# Altium footprint library Pcblibv2.PcbLib: 94 footprints (part 2 of 6)
Each footprint in its own frame and in the unit in brackets; x right, y up, seen from the top. Pads: shape width x height; smd on the part's side, far side on the other; paste and mask are expansions set on the pad; w line width, h text height; cw(c..) or ccw(c..) is an arc to the next point about the centre after c.
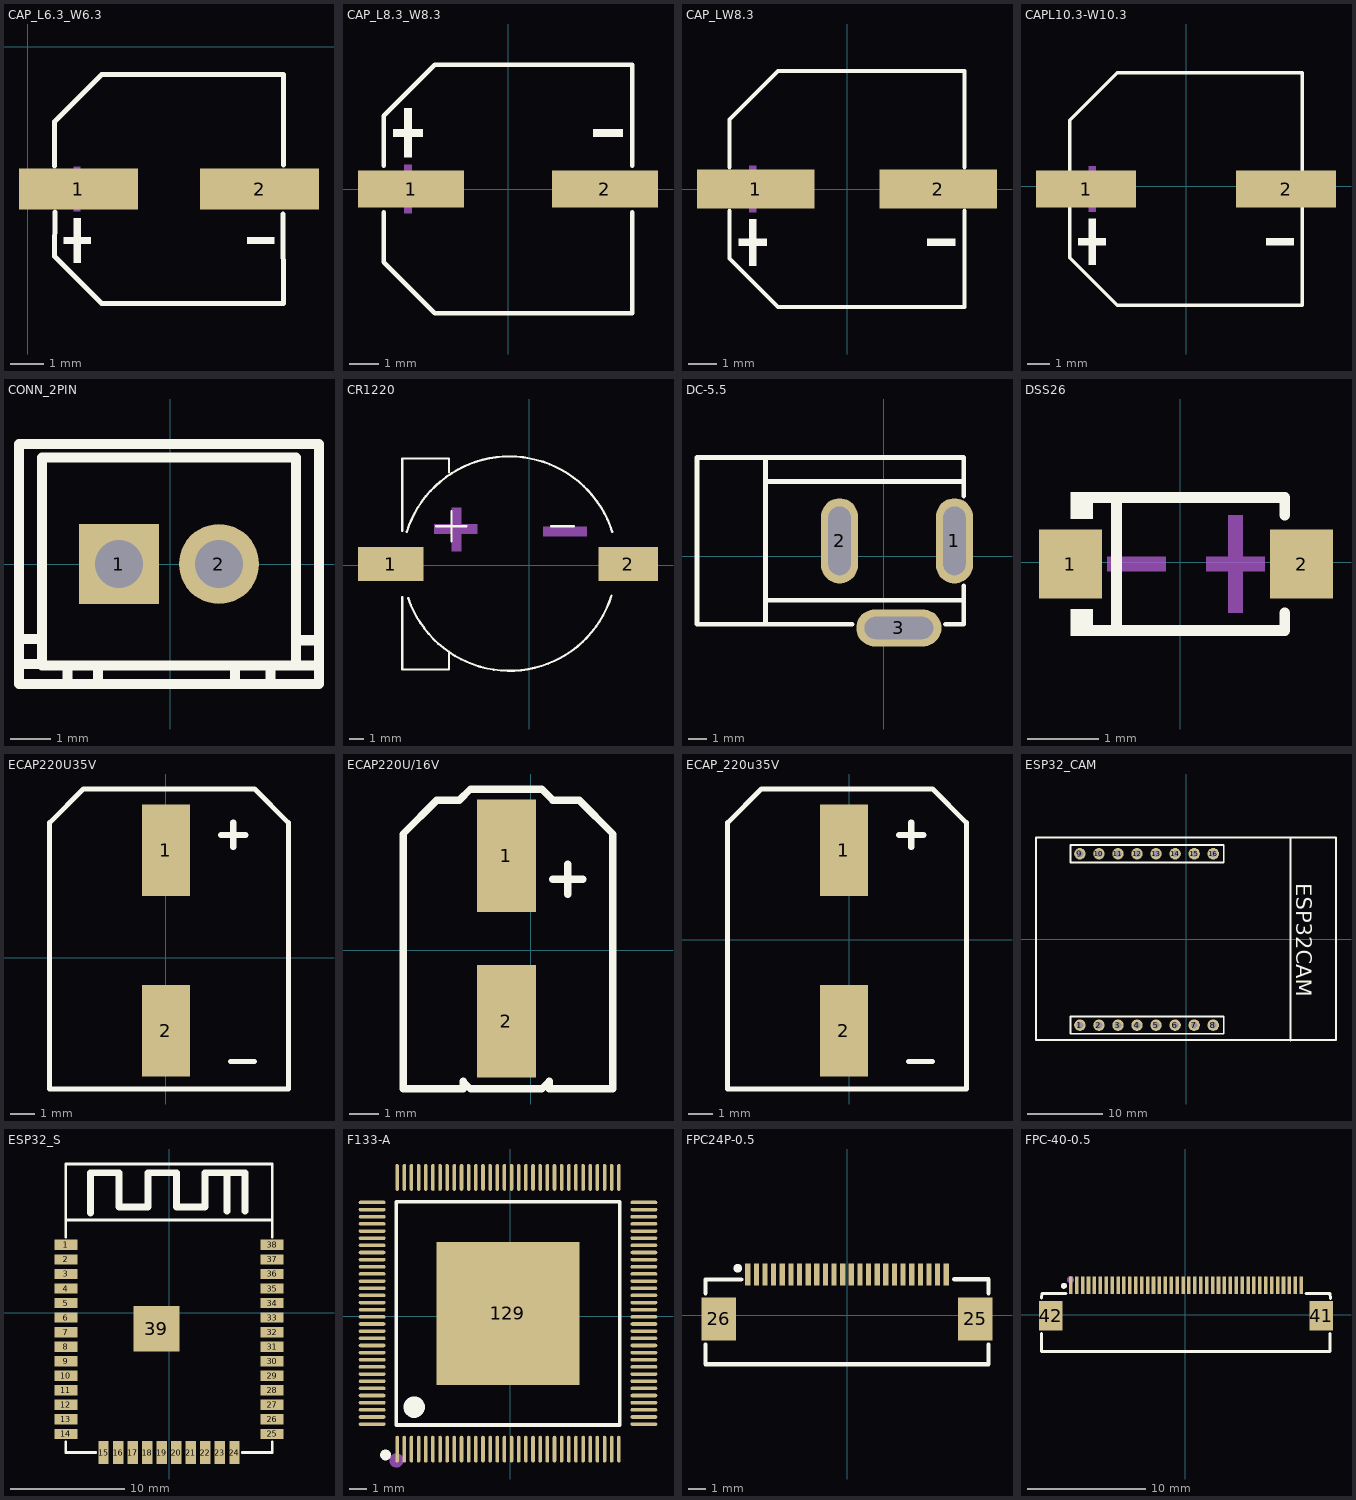
[diagram p1: the footprints below, top view; thin cyan lines are the x and y axes]

## CAP_L6.3_W6.3 [mm]
pads (2):
  rect 3.5x1.2 smd: 1(1.491,-4.186) 2(6.831,-4.186)
Top Overlay:
  region: 1.356,-5.044 1.356,-6.364 1.554,-6.364 1.554,-5.044
  region: 1.059,-5.605 1.059,-5.803 1.851,-5.803 1.851,-5.605
  region: 7.263,-5.605 7.263,-5.803 6.471,-5.803 6.471,-5.605
  lines w0.152: 0.784,-3.5 0.784,-2.206 2.18,-0.81 7.537,-0.81 7.53,-3.478 ; 0.798,-4.872 0.785,-6.167 2.179,-7.562 7.536,-7.562 7.516,-4.925
Mechanical 15:
  region: 1.351,-3.526 1.351,-4.846 1.549,-4.846 1.549,-3.526
  region: 1.059,-4.087 1.059,-4.285 1.851,-4.285 1.851,-4.087
  region: 7.263,-4.087 7.263,-4.285 6.471,-4.285 6.471,-4.087

## CAP_L8.3_W8.3 [mm]
pads (2):
  rect 3.61x1.26 smd: 1(-3.295,0) 2(3.295,0)
Top Overlay:
  region: -3.528,1.079 -3.528,2.739 -3.279,2.739 -3.279,1.079
  region: -3.901,1.785 -3.901,2.033 -2.905,2.033 -2.905,1.785
  region: 3.901,1.785 3.901,2.033 2.905,2.033 2.905,1.785
  lines w0.152: -4.226,-0.782 -4.226,-2.49 -2.49,-4.226 4.226,-4.226 4.226,-0.782 ; -4.226,0.782 -4.226,2.49 -2.49,4.226 4.226,4.226 4.226,0.782
Mechanical 15:
  region: -3.528,-0.83 -3.528,0.83 -3.279,0.83 -3.279,-0.83
  region: -3.901,-0.125 -3.901,0.125 -2.905,0.125 -2.905,-0.125
  region: 3.901,-0.125 3.901,0.125 2.905,0.125 2.905,-0.125

## CAP_LW8.3 [mm]
pads (2):
  rect 4.2x1.4 smd: 1(-3.267,0) 2(3.267,0)
Top Overlay:
  region: -3.503,-1.079 -3.503,-2.739 -3.254,-2.739 -3.254,-1.079
  region: -3.876,-1.785 -3.876,-2.033 -2.88,-2.033 -2.88,-1.785
  region: 3.876,-1.785 3.876,-2.033 2.88,-2.033 2.88,-1.785
  lines w0.152: -4.201,-0.782 -4.201,-2.49 -2.465,-4.226 4.201,-4.226 4.201,-0.782 ; -4.201,0.782 -4.201,2.49 -2.465,4.226 4.201,4.226 4.201,0.782
Mechanical 15:
  region: -3.503,0.83 -3.503,-0.83 -3.254,-0.83 -3.254,0.83
  region: -3.876,0.125 -3.876,-0.125 -2.88,-0.125 -2.88,0.125
  region: 3.876,0.125 3.876,-0.125 2.88,-0.125 2.88,0.125

## CAPL10.3-W10.3 [mm]
pads (2):
  rect 4.5x1.65 smd: 1(-4.503,-0.127) 2(4.497,-0.127)
Top Overlay:
  region: -4.38,-1.466 -4.38,-3.526 -4.071,-3.526 -4.071,-1.466
  region: -4.844,-2.341 -4.844,-2.65 -3.608,-2.65 -3.608,-2.341
  region: 4.838,-2.341 4.838,-2.65 3.602,-2.65 3.602,-2.341
  lines w0.152: -5.229,-0.979 -5.229,-3.217 -3.093,-5.353 5.224,-5.353 5.224,-0.979 ; -5.229,0.725 -5.229,2.963 -3.093,5.099 5.224,5.099 5.224,0.725
Mechanical 15:
  region: -4.38,0.903 -4.38,-1.157 -4.071,-1.157 -4.071,0.903
  region: -4.844,0.028 -4.844,-0.282 -3.608,-0.282 -3.608,0.028
  region: 4.838,0.028 4.838,-0.282 3.602,-0.282 3.602,0.028

## CONN_2PIN [mm] "锂电池接插件2PIN"
pads (2):
  rect 2x2 hole 1.2: 1(-1.276,0)
  round 2 hole 1.2: 2(1.224,0)
Top Overlay:
  lines w0.254: -3.776,-1.875 -3.276,-1.875 ; -1.804,-3 -1.804,-2.667 ; 3.149,-2.54 3.724,-2.54 ; 3.149,-1.905 3.724,-1.905 ; -3.775,-3 3.725,-3 3.725,3 -3.775,3 -3.776,-3 ; -3.776,-2.5 -3.276,-2.5 -3.776,-2.5 ; -3.201,-2.54 3.149,-2.54 3.149,2.667 -3.201,2.667 -3.201,-2.54 ; -2.566,-3 -2.566,-2.54 -2.566,-3 ; 1.625,-3 1.625,-2.54 1.625,-3 ; 2.514,-3 2.514,-2.54 2.514,-3

## CR1220 [mm] "纽扣电池座"
pads (2):
  rect 4.4x2.3 smd: 1(-9.344,0.092)
  rect 4x2.3 smd: 2(6.656,0.092)
Top Overlay:
  lines w0.15: -8.564,-2.139 -8.564,-7.02 -5.408,-7.02 -5.408,-5.82 ; -8.564,2.323 -8.564,7.204 -5.408,7.204 -5.408,6.263 ; -8.255,2.267 cw(c-1.344,0.092) 5.574,2.246 ; -8.159,-2.205 ccw(c-1.344,0.092) 5.528,-2.032 ; -6.271,2.632 -4.239,2.632 ; -5.255,1.616 -5.255,3.648 ; 1.476,2.632 3,2.632
Mechanical 15:
  region: -6.424,2.759 -3.503,2.759 -3.503,2.124 -6.424,2.124
  region: -5.242,0.965 -5.242,3.886 -4.607,3.886 -4.607,0.965
  region: 0.928,2.608 3.849,2.608 3.849,1.973 0.928,1.973

## DC-5.5 [mm] "DC充电插座"
pads (3):
  oval 2x4.6 hole 1.2 slot 3.7 at 90 deg: 1(3.802,0.834) 2(-2.397,0.835)
  oval 4.6x2 hole 1.2 slot 3.7 at 0 deg: 3(0.803,-3.866)
Top Overlay:
  lines w0.254: -6.397,-3.665 -6.397,5.335 ; -6.317,-2.365 4.303,-2.365 ; -6.317,4.034 4.303,4.034 ; -1.712,-3.665 -10.097,-3.665 -10.097,5.335 4.303,5.335 4.303,3.259 ; 3.317,-3.665 4.303,-3.665 4.303,-1.59

## DSS26 [mm]
pads (2):
  rect 0.88x0.96 smd: 1(-1.53,-0.026) 2(1.69,-0.026)
Top Overlay:
  region: -1.22,0.977 -1.22,0.607 -1.525,0.607 -1.525,0.977
  region: -1.22,-1.028 -1.22,-0.658 -1.525,-0.658 -1.525,-1.028
  lines w0.152: -1.296,-0.952 1.456,-0.952 1.456,-0.709 ; -1.296,0.9 1.456,0.9 1.456,0.657 ; -0.887,-0.952 -0.887,0.9
Mechanical 15:
  region: -1.016,0.076 -1.016,-0.128 -0.2,-0.128 -0.2,0.076
  region: 1.176,0.076 1.176,-0.128 0.36,-0.128 0.36,0.076
  region: 0.87,0.654 0.87,-0.706 0.666,-0.706 0.666,0.654

## ECAP220U35V [mm]
pads (2):
  rect 2x3.8 smd: 1(0,4.47) 2(0,-3.023)
Top Overlay:
  lines w0.203: 2.667,-4.293 3.683,-4.293 ; -4.826,-5.436 5.08,-5.436 5.08,5.613 3.683,7.01 -3.429,7.01 -4.826,5.613 -4.826,-5.436
  lines w0.254: 2.286,5.105 3.302,5.105 ; 2.794,4.597 2.794,5.613

## ECAP220U/16V [mm]
pads (2):
  rect 2x3.8 smd: 1(-0.818,3.198) 2(-0.818,-2.402)
Top Overlay:
  lines w0.254: -4.318,1.778 -4.318,3.937 -3.175,5.08 -2.413,5.08 -2.032,5.461 0.381,5.461 0.762,5.08 1.651,5.08 2.794,3.937 2.794,-4.699 0.635,-4.699 0.635,-4.445 0.381,-4.699 -2.032,-4.699 -2.286,-4.445 -2.286,-4.699 -4.318,-4.699 -4.318,1.905 ; 0.762,2.413 1.778,2.413 ; 1.27,1.905 1.27,2.921

## ECAP_220u35V [mm]
pads (2):
  rect 2x3.8 smd: 1(-0.229,3.708) 2(-0.229,-3.785)
Top Overlay:
  lines w0.203: 2.438,-5.055 3.454,-5.055 ; -5.055,-6.198 4.851,-6.198 4.851,4.851 3.454,6.248 -3.658,6.248 -5.055,4.851 -5.055,-6.198
  lines w0.254: 2.057,4.343 3.073,4.343 ; 2.565,3.835 2.565,4.851

## ESP32_CAM [mil]
pads (16):
  round 60 hole 35.43: 1(-557.08,-452.5) 2(-457.08,-452.5) 3(-357.08,-452.5) 4(-257.08,-452.5) 5(-157.08,-452.5) 6(-57.08,-452.5) 7(42.92,-452.5) 8(142.92,-452.5) 9(-557.08,447.5) 10(-457.08,447.5) 11(-357.08,447.5) 12(-257.08,447.5) 13(-157.08,447.5) 14(-57.08,447.5) 15(42.92,447.5) 16(142.92,447.5)
Top Overlay:
  lines w10: 548.12,-532.5 548.12,532.5 ; -787.4,-530.49 -787.4,532.5 787.4,532.5 787.4,-530.49 -787.4,-530.49 ; -607.08,-497.5 197.92,-497.5 197.92,-407.5 182.92,-407.5 -607.08,-407.5 -607.08,-497.5 ; -607.08,402.5 197.92,402.5 197.92,492.5 182.92,492.5 -607.08,492.5 -607.08,402.5
  text "ESP32CAM" at 577.92,292.5 h80
Top Solder:
  text "ESP32CAM" at 577.92,292.5 h80

## ESP32_S [mm]
pads (39):
  rect 2x0.9 smd: 1(-9,5.925) 2(-9,4.655) 3(-9,3.385) 4(-9,2.115) 5(-9,0.845) 6(-9,-0.425) 7(-9,-1.695) 8(-9,-2.965) 9(-9,-4.235) 10(-9,-5.505) 11(-9,-6.775) 12(-9,-8.045) 13(-9,-9.315) 14(-9,-10.585) 25(9,-10.585) 26(9,-9.315) 27(9,-8.045) 28(9,-6.775) 29(9,-5.505) 30(9,-4.235) 31(9,-2.965) 32(9,-1.695) 33(9,-0.425) 34(9,0.845) 35(9,2.115) 36(9,3.385) 37(9,4.655) 38(9,5.925)
  rect 0.9x2 smd: 15(-5.715,-12.211) 16(-4.445,-12.211) 17(-3.175,-12.211) 18(-1.905,-12.211) 19(-0.635,-12.211) 20(0.635,-12.211) 21(1.905,-12.211) 22(3.175,-12.211) 23(4.445,-12.211) 24(5.715,-12.211)
  rect 4x4 smd: 39(-1.1,-1.392)
Top Overlay:
  lines w0.254: -9.017,-11.267 -9.017,-12.211 -6.396,-12.212 ; -9.017,6.606 -9.017,12.989 9.017,12.989 9.017,6.606 ; -9.017,8.089 9.017,8.089 ; 6.396,-12.211 9.017,-12.211 9.017,-11.267
  lines w0.6: -6.85,8.724 -6.85,12.224 -4.35,12.224 ; -4.351,12.224 -4.351,9.224 -1.849,9.224 -1.849,12.224 0.65,12.224 0.65,9.224 3.149,9.224 3.149,12.224 6.65,12.224 6.65,8.857 ; 5.08,8.857 5.08,12.224

## F133-A [mm]
pads (129):
  oval 0.2x1.5 smd: 1(-6.33,-7.435) 2(-5.93,-7.435) 3(-5.53,-7.435) 4(-5.13,-7.435) 5(-4.73,-7.435) 6(-4.33,-7.435) 7(-3.929,-7.435) 8(-3.53,-7.435) 9(-3.129,-7.435) 10(-2.73,-7.435) 11(-2.329,-7.435) 12(-1.93,-7.435) 13(-1.529,-7.435) 14(-1.13,-7.435) 15(-0.73,-7.435) 16(-0.33,-7.435) 17(0.07,-7.435) 18(0.47,-7.435) 19(0.87,-7.435) 20(1.27,-7.435) 21(1.67,-7.435) 22(2.07,-7.435) 23(2.47,-7.435) 24(2.87,-7.435) 25(3.27,-7.435) 26(3.67,-7.435) 27(4.07,-7.435) 28(4.47,-7.435) 29(4.87,-7.435) 30(5.271,-7.435) 31(5.67,-7.435) 32(6.071,-7.435) 65(6.071,7.764) 66(5.671,7.764) 67(5.271,7.764) 68(4.87,7.764) 69(4.47,7.764) 70(4.07,7.764) 71(3.67,7.764) 72(3.271,7.764) 73(2.87,7.764) 74(2.47,7.764) 75(2.07,7.764) 76(1.671,7.764) 77(1.27,7.764) 78(0.87,7.764) 79(0.47,7.764) 80(0.07,7.764) 81(-0.329,7.764) 82(-0.729,7.764) 83(-1.13,7.764) 84(-1.529,7.764) 85(-1.93,7.764) 86(-2.329,7.764) 87(-2.729,7.764) 88(-3.129,7.764) 89(-3.53,7.764) 90(-3.929,7.764) 91(-4.329,7.764) 92(-4.729,7.764) 93(-5.13,7.764) 94(-5.53,7.764) 95(-5.93,7.764) 96(-6.33,7.764)
  oval 1.5x0.2 smd: 33(7.47,-6.036) 34(7.47,-5.635) 35(7.47,-5.235) 36(7.47,-4.835) 37(7.47,-4.435) 38(7.47,-4.035) 39(7.47,-3.635) 40(7.47,-3.235) 41(7.47,-2.835) 42(7.47,-2.435) 43(7.47,-2.035) 44(7.47,-1.635) 45(7.47,-1.235) 46(7.47,-0.835) 47(7.47,-0.435) 48(7.47,-0.035) 49(7.47,0.365) 50(7.47,0.765) 51(7.47,1.165) 52(7.47,1.564) 53(7.47,1.965) 54(7.47,2.364) 55(7.47,2.765) 56(7.47,3.164) 57(7.47,3.565) 58(7.47,3.964) 59(7.47,4.365) 60(7.47,4.765) 61(7.47,5.165) 62(7.47,5.565) 63(7.47,5.965) 64(7.47,6.365) 97(-7.729,6.365) 98(-7.729,5.965) 99(-7.729,5.565) 100(-7.729,5.165) 101(-7.729,4.765) 102(-7.729,4.365) 103(-7.729,3.964) 104(-7.729,3.565) 105(-7.729,3.164) 106(-7.729,2.765) 107(-7.729,2.364) 108(-7.729,1.965) 109(-7.729,1.564) 110(-7.729,1.165) 111(-7.729,0.765) 112(-7.729,0.365) 113(-7.729,-0.035) 114(-7.729,-0.435) 115(-7.729,-0.835) 116(-7.729,-1.235) 117(-7.729,-1.635) 118(-7.729,-2.035) 119(-7.729,-2.435) 120(-7.729,-2.835) 121(-7.729,-3.235) 122(-7.729,-3.635) 123(-7.729,-4.035) 124(-7.729,-4.435) 125(-7.729,-4.835) 126(-7.729,-5.235) 127(-7.729,-5.635) 128(-7.729,-6.036)
  rect 8x8 smd: 129(-0.13,0.165)
Top Overlay:
  lines w0.2: -6.379,-6.085 -6.379,6.415 6.12,6.415 6.12,-6.085 -6.379,-6.085
  lines w0.3: -6.98,-7.61 ccw(c-6.979,-7.76) -6.977,-7.61
  lines w0.6: -5.38,-4.786 ccw(c-5.377,-5.086) -5.375,-4.786
Mechanical 15:
  circle w0.4: c-6.37,-8.065 r0.2

## FPC24P-0.5 [mm]
pads (26):
  rect 0.3x1.25 smd: 1(-5.75,2.351) 2(-5.25,2.351) 3(-4.75,2.351) 4(-4.25,2.351) 5(-3.75,2.351) 6(-3.25,2.351) 7(-2.75,2.351) 8(-2.25,2.351) 9(-1.75,2.351) 10(-1.25,2.351) 11(-0.75,2.351) 12(-0.25,2.351) 13(0.25,2.351) 14(0.75,2.351) 15(1.25,2.351) 16(1.75,2.351) 17(2.25,2.351) 18(2.75,2.351) 19(3.25,2.351) 20(3.75,2.351) 21(4.25,2.351) 22(4.75,2.351) 23(5.25,2.351) 24(5.75,2.351)
  rect 2x2.5 smd: 25(7.44,-0.224) 26(-7.44,-0.224)
Top Overlay:
  circle w0.254: c-6.327,2.714 r0.127
  lines w0.254: -8.2,-1.705 -8.2,-2.849 8.2,-2.849 8.2,-1.705 ; -8.2,1.257 -8.2,2.063 -6.131,2.063 ; 6.223,2.079 8.2,2.079 8.2,1.257

## FPC-40-0.5 [mm] "C2856812"
pads (42):
  rect 0.3x1.5 smd: 1(-9.704,2.485) 2(-9.204,2.485) 3(-8.704,2.485) 4(-8.204,2.485) 5(-7.704,2.485) 6(-7.204,2.485) 7(-6.704,2.485) 8(-6.204,2.485) 9(-5.704,2.485) 10(-5.204,2.485) 11(-4.704,2.485) 12(-4.204,2.485) 13(-3.704,2.485) 14(-3.204,2.485) 15(-2.704,2.485) 16(-2.204,2.485) 17(-1.704,2.485) 18(-1.204,2.485) 19(-0.704,2.485) 20(-0.204,2.485) 21(0.296,2.485) 22(0.796,2.485) 23(1.296,2.485) 24(1.796,2.485) 25(2.296,2.485) 26(2.796,2.485) 27(3.296,2.485) 28(3.796,2.485) 29(4.296,2.485) 30(4.796,2.485) 31(5.296,2.485) 32(5.796,2.485) 33(6.296,2.485) 34(6.796,2.485) 35(7.296,2.485) 36(7.796,2.485) 37(8.296,2.485) 38(8.796,2.485) 39(9.296,2.485) 40(9.796,2.485)
  rect 2x2.5 smd: 41(11.486,-0.09) 42(-11.394,-0.09)
Top Overlay:
  circle w0.254: c-10.281,2.437 r0.127
  lines w0.254: -12.183,-3.133 -12.183,-1.597 ; -12.167,1.411 -12.154,1.786 -10.085,1.786 ; -12.154,-3.126 12.246,-3.126 ; 10.177,1.802 12.246,1.802 12.255,1.351 ; 12.212,-3.133 12.219,-1.595
Mechanical 15:
  circle w0.3: c-9.733,2.945 r0.15